# EAGLE library part MOTORSCHUTZSCHALTER_3-POL_THERM_MAG_AUSLOESUNG_HILFSKONTAKTE (library e-motorschutzschalter)
Motorschutzschalter 3-pol. mit thermischer Auslösung, Hilfskontakte
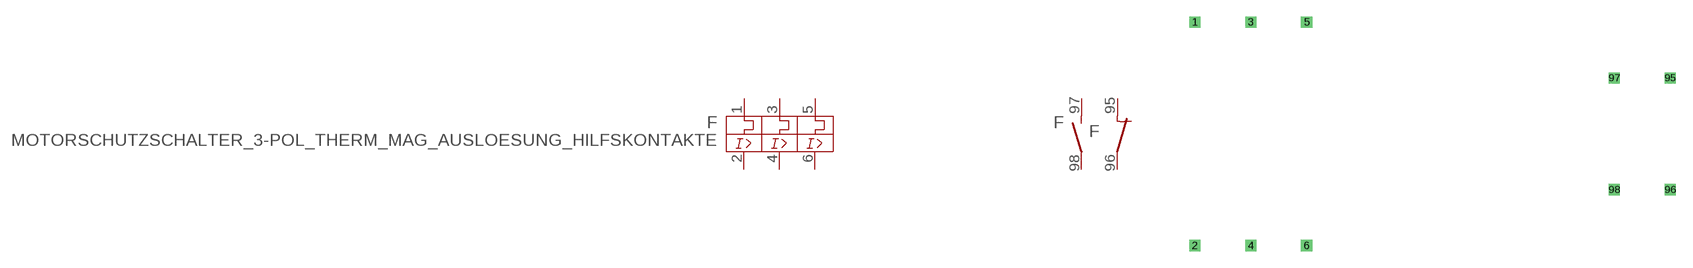
[diagram p5: symbol with the pads of MOTORSCHUTZSCHALTER_3-POL_THERM_MAG_AUSLOESUNG_HILFSKONTAKT_95_96_97_98; footprint MOTORSCHUTZSCHALTER_3-POL_THERM_MAG_AUSLOESUNG_HILFSKONTAKT_95_96_97_98]

Designator prefix F; gates G$2=SCHLIESSER-1 G$3=OEFFNER-1 G$1=MOTORSCHUTZSCHALTER_3-POL_THERM_MAG_AUSLOESUNG_ALTERNATIV

## MOTORSCHUTZSCHALTER_3-POL_THERM_MAG_AUSLOESUNG_HILFSKONTAKTE  [MOTORSCHUTZSCHALTER_3-POL_THERM_MAG_AUSLOESUNG_HILFSKONTAKT_95_96_97_98]
1  G$1:1  pas
2  G$1:2  pas
3  G$1:4  pas
4  G$1:3  pas
5  G$1:6  pas
6  G$1:5  pas
95  G$3:95  pas
96  G$3:96  pas
97  G$2:97  pas
98  G$2:98  pas

## Footprint MOTORSCHUTZSCHALTER_3-POL_THERM_MAG_AUSLOESUNG_HILFSKONTAKT_95_96_97_98 (pad centres in mm)
Dummy
drill 0.5 pad 1 square: 1 -5.08,7.62; 2 -5.08,-12.7; 3 0,7.62; 4 0,-12.7; 5 5.08,7.62; 6 5.08,-12.7; 95 38.1,2.54; 96 38.1,-7.62; 97 33.02,2.54; 98 33.02,-7.62